# Altium footprint library Inductances.PcbLib: 8 footprints
Each footprint in its own frame and in the unit in brackets; x right, y up, seen from the top. Pads: shape width x height; smd on the part's side, far side on the other; paste and mask are expansions set on the pad; w line width, h text height; cw(c..) or ccw(c..) is an arc to the next point about the centre after c.
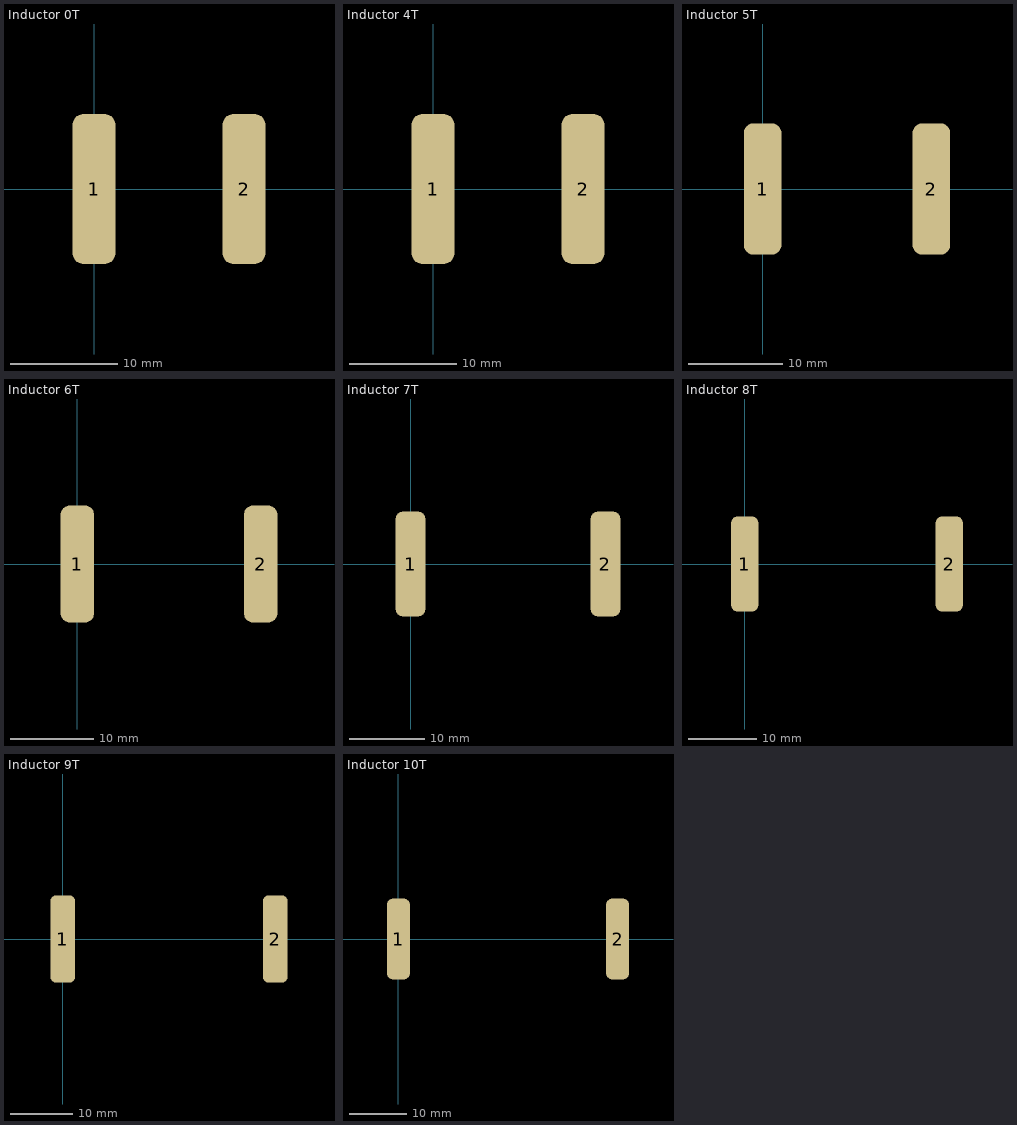
[diagram p0: the footprints below, top view; thin cyan lines are the x and y axes]

## Inductor 0T [mm]
pads (2):
  rrect50% 4x14 smd: 1(0,0) 2(14,0)
3D body "Inductor 0T.x_t": height 8.95, standoff 0.06, extent -0.963,-5.847 14.933,6.096

## Inductor 4T [mm]
pads (2):
  rrect50% 4x14 smd: 1(0,0) 2(14,0)
3D body "Inductor 4T.STEP": height 18.36, standoff -0.03, extent -1.145,-7.239 15.115,7.281

## Inductor 5T [mm]
pads (2):
  rrect50% 4x14 smd: 1(0,0) 2(18,0)
3D body "Inductor 5T.STEP": height 18.36, standoff -0.03, extent -1.13,-7.26 19.13,7.26

## Inductor 6T [mm]
pads (2):
  rrect50% 4x14 smd: 1(0,0) 2(22,0)
3D body "Inductor 6T.STEP": height 18.36, standoff -0.03, extent -1.13,-7.26 23.13,7.26

## Inductor 7T [mm]
pads (2):
  rrect50% 4x14 smd: 1(0,0) 2(26,0)
3D body "Inductor 7T.STEP": height 18.36, standoff -0.03, extent -1.13,-7.26 27.13,7.26

## Inductor 8T [mm]
pads (2):
  rrect50% 4x14 smd: 1(0,0) 2(30,0)
3D body "Inductor 8T.STEP": height 18.36, standoff -0.03, extent -1.13,-7.26 31.13,7.26

## Inductor 9T [mm]
pads (2):
  rrect50% 4x14 smd: 1(0,0) 2(34,0)
3D body "Inductor 9T.STEP": height 18.36, standoff -0.03, extent -1.13,-7.26 35.13,7.26

## Inductor 10T [mm]
pads (2):
  rrect50% 4x14 smd: 1(0,0) 2(38,0)
3D body "Inductor 10T.STEP": height 18.36, standoff -0.03, extent -1.13,-7.26 39.13,7.26